# Altium schematic symbol library Transistors.SchLib: 6 symbols
Pins are listed as number, name and electrical type; pins without a type are passive.

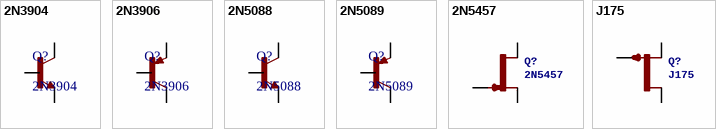
[diagram p0: symbols 2N3904 to J175]

## 2N3904
designator Q?
Price: 0.01; Package: TO-92
footprint TO92
pins: 1 C, 2 B, 3 E

## 2N3906
designator Q?
Price: 0.01; Package: TO-92
footprint TO92
pins: 1 C, 2 B, 3 E

## 2N5088
designator Q?
Price: 0.02; Package: TO-92
footprint TO92
pins: 1 C, 2 B, 3 E

## 2N5089
designator Q?
Price: 0.02; Package: TO-92
footprint TO92
pins: 1 C, 2 B, 3 E

## 2N5457
designator Q?
Price: 0.2; Package: TO-92
footprint TO92
pins: 1 G, 2 S, 3 D

## J175
designator Q?
footprint TO92
pins: 1 S, 2 G, 3 D